# Altium schematic symbol library TKS Semestr.SCHLIB: 27 symbols
Pins are listed as number, name and electrical type; pins without a type are passive.

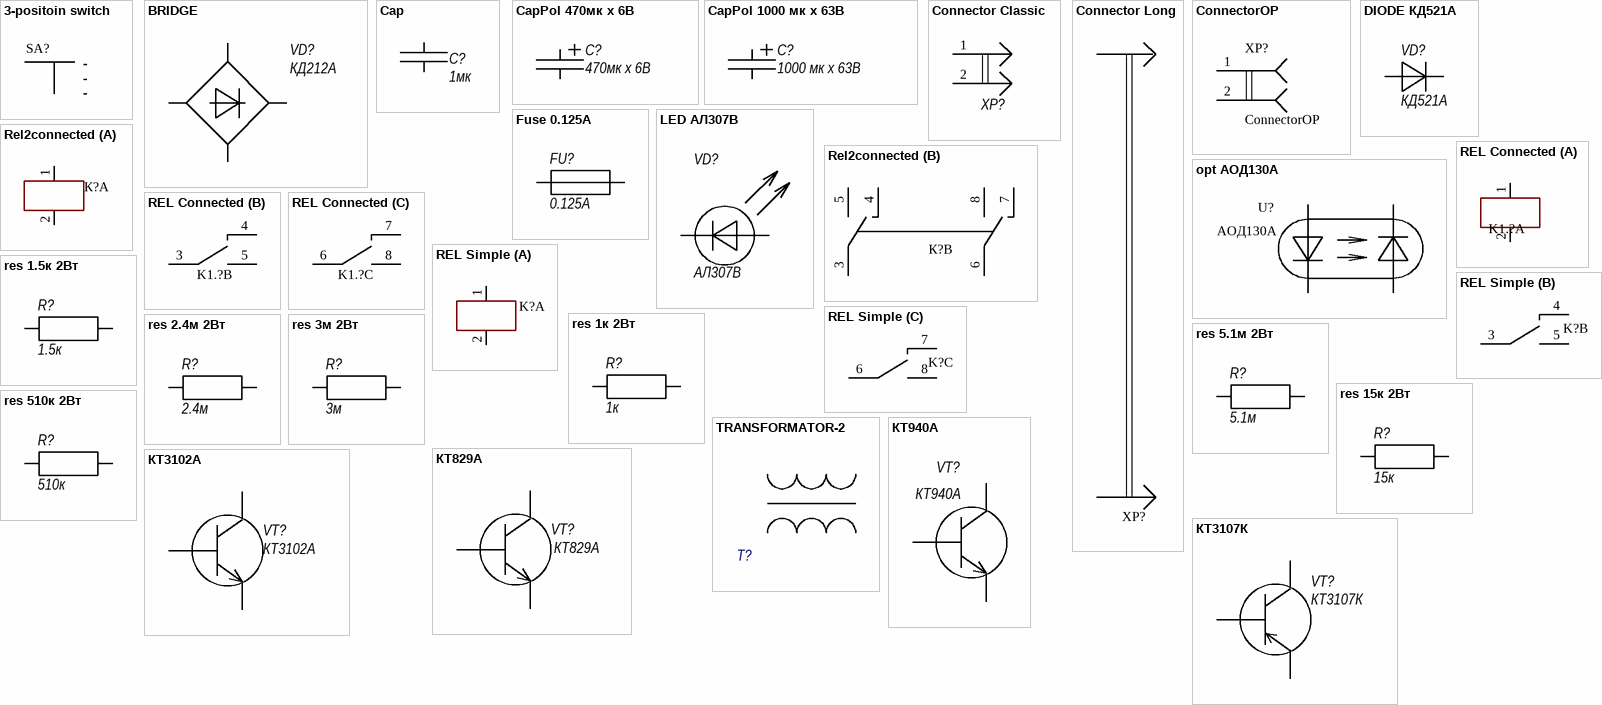
[diagram p0: symbols 3-positoin switch to КТ3107К]

## 3-positoin switch
designator SA?  (value not drawn)
Наименование: 3-х позиционный переключатель NR01103ANG13-1C
footprint SW_NR01103ANG13-1C
pins: 1 0, 2 1, 3 2, 4 3

## BRIDGE
designator VD?, comment КД212А
Наименование: Диодный мост GBJ2506-F 600В 25А
footprint DIOB_GBJ2506
pins: 1, 2, 3, 4
1 alternate drawing of the same symbol

## Cap
designator C?, comment 1мк
Наименование: Конденсатор дисковый 1 мкФ 25В +80-20%
footprint CAPRB_MURATA_DEBE33D103ZA3B (Capacitor Radial Button, Pin spacing 7.5mm - Body Diameter  16mm X Body Width 5mm X Body Height 19mm)
pins: 1, 2

## CapPol 470мк х 6В
designator C?, comment 470мк х 6В
Наименование: К50-35 Конденсатор электролитический 470 мкФ 6В 105*С
footprint CAPPR1000-3600X5200 (Capacitor, Radial, Leads spacing 10mm - Body Diameter 35.0mm X Body  Height 50.0mm)
pins: 1, 2

## CapPol 1000 мк х 63В
designator C?, comment 1000 мк х 63В
Наименование: К50-35 Конденсатор электролитический 1000 мкФ 63В 105*С
footprint CAPPR1000-2300X4200 (Capacitor, Radial, Pins spacing 10mm - Body Diameter 23mm X Body  Height 42mm)
pins: 1, 2

## Connector Classic
designator XP?
Наименование: Клеммник винтовой MKDS 1,5/ 2-5,08
footprint PHOENIX_1715721 (Terminal Block, 17.5A 250V, Pitch 5.08mm, 2 Positions, Screw Connection)
pins: 1, 2
2 alternate drawings of the same symbol

## Connector Long
designator XP?, comment Connector2-long  (value not drawn)
Наименование: Клеммник винтовой MKDS 1,5/ 2-5,08
footprint PHOENIX_1715721 (Terminal Block, 17.5A 250V, Pitch 5.08mm, 2 Positions, Screw Connection)
pins: 1 -60, 2 +60

## ConnectorOP
designator XP?
Наименование: Клеммник винтовой MKDS 1,5/ 2-5,08
footprint PHOENIX_1715721 (Terminal Block, 17.5A 250V, Pitch 5.08mm, 2 Positions, Screw Connection)
pins: 1, 2

## DIODE КД521А
designator VD?, comment КД521А
Наименование: Диод КД521А 100В 50 мА
footprint DO-35 (Diode, Axial, Body 4.6 x 2 mm (LxDia. max), Pin spacing 7.62mm)
pins: 1 A, 2 C

## Fuse 0.125А
designator FU?, comment 0.125А
Наименование: Патрон плавкого предохранителя OGN Fuse Holder 0031.8201 10 А
footprint FUSH_SCHURTER_OGN (SCHURTER OGN Series, Fuse holder for 5x20mm Fuses)
pins: 1, 2

## LED АЛ307В
designator VD?, comment АЛ307В
Наименование: Светодиод АЛ307ВМ 2В 20 мА
footprint LED_3MM_GREEN_1C-2A (LED, Green, Body Dia. 3.43 mm, Pin spacing 2.54mm)
footprint LED_3MM_RED_1C-2A (LED, Red, Body Dia. 3.43 mm, Pin spacing 2.54mm)
footprint LED_3MM_YELLOW_1C-2A (LED, Red, Body Dia. 3.43 mm, Pin spacing 2.54mm)
pins: 1 A, 2 C
1 alternate drawing of the same symbol

## opt АОД130А
designator U?, comment АОД130А
Наименование: Оптопара АОД130А
footprint DIP1016W50P254L458H480Q4
pins: 1, 2, 3, 4

## Rel2connected
designator К?  (value not drawn)
Наименование: Реле электромагнитное РЭС9 27В
footprint USSR relay
part A pins: 1, 2
part B pins: 3 11, 4 12, 5 14, 6 11, 7 12, 8 14

## REL Connected
designator K1.?, comment REl2  (value not drawn)
Наименование: Реле электромагнитное РЭС9 27В
part A pins: 1, 2
part B pins: 3, 4, 5
part C pins: 6, 7, 8

## REL Simple
designator K?
Наименование: Реле электромагнитное РЭС9 27В
footprint USSR relay
part A pins: 1, 2
part B pins: 3, 4, 5
part C pins: 6, 7, 8

## res 1.5к 2Вт
designator R?, comment 1.5к
Наименование: KNP-200 Резистор 1,5 кОм 2Вт ±5%
footprint RES2032-1400X350 (Resistor, Axial, Pad spacing 20.32mm - Body Lengh 14mm X Body Diameter 3.5mm)
pins: 1, 2

## res 1к 2Вт
designator R?, comment 1к
Наименование: KNP-200 Резистор 1 кОм 2Вт ±5%
footprint RES2032-1400X350 (Resistor, Axial, Pad spacing 20.32mm - Body Lengh 14mm X Body Diameter 3.5mm)
pins: 1, 2

## res 2.4м 2Вт
designator R?, comment 2.4м
Наименование: KNP-200 Резистор 2,4 МОм 2Вт ±5%
footprint RES2032-1400X350 (Resistor, Axial, Pad spacing 20.32mm - Body Lengh 14mm X Body Diameter 3.5mm)
pins: 1, 2

## res 3м 2Вт
designator R?, comment 3м
Наименование: KNP-200 Резистор 1 кОм 2Вт ±5%
footprint RES2032-1400X350 (Resistor, Axial, Pad spacing 20.32mm - Body Lengh 14mm X Body Diameter 3.5mm)
pins: 1, 2

## res 5.1м 2Вт
designator R?, comment 5.1м
Наименование: KNP-200 Резистор 5,1 МОм 2Вт ±5%
footprint RES2032-1400X350 (Resistor, Axial, Pad spacing 20.32mm - Body Lengh 14mm X Body Diameter 3.5mm)
pins: 1, 2

## res 15к 2Вт
designator R?, comment 15к
Наименование: KNP-200 Резистор 15 кОм 2Вт ±5%
footprint RES2032-1400X350 (Resistor, Axial, Pad spacing 20.32mm - Body Lengh 14mm X Body Diameter 3.5mm)
pins: 1, 2

## res 510к 2Вт
designator R?, comment 510к
НАименование: KNP-200 Резистор 510 кОм 2Вт ±5%
footprint RES2032-1400X350 (Resistor, Axial, Pad spacing 20.32mm - Body Lengh 14mm X Body Diameter 3.5mm)
pins: 1, 2

## TRANSFORMATOR-2
designator T?
Наименование: Трансформатор силовой 12В, 28Вт
pins: 1, 2, 3, 4

## КТ829А
designator VT?
Наименование: Транзистор КТ 829А
footprint TO-92AA-P254 (TO-92 (TO226), Pitch 2.54mm, Flat Index, 3 In-Line, Bent Leads, Body Dia. 5.3mm)
footprint TO-92AA-P152 (TO-92 (TO-226),  Pitch 1.524mm, Flat Index, 3 In-Line, Axial Leads, Body Dia. 5.3mm, Leads Dia. 0.5mm (max))
pins: 1, 2, 3

## КТ940А
designator VT?
Наименование: Транзистор КТ940А
footprint TO-92AA-P254 (TO-92 (TO226), Pitch 2.54mm, Flat Index, 3 In-Line, Bent Leads, Body Dia. 5.3mm)
footprint TO-126-v (TO-126 3-Terminal - Vertical Mount)
pins: 1, 2, 3

## КТ3102А
designator VT?
Наименование: Транзистор КТ3102А
footprint TO-92AA-P254 (TO-92 (TO226), Pitch 2.54mm, Flat Index, 3 In-Line, Bent Leads, Body Dia. 5.3mm)
footprint TO-18 (TO-18  3 Leads, Pitch 2.54mm, Body Dia. 5.84mm, Leads Dia. 0.5mm)
pins: 1, 2, 3

## КТ3107К
designator VT?
Наименование: Транзистор КТ3107К
footprint TO-92AA-P152 (TO-92 (TO-226),  Pitch 1.524mm, Flat Index, 3 In-Line, Axial Leads, Body Dia. 5.3mm, Leads Dia. 0.5mm (max))
pins: 1, 2, 3